# Altium schematic symbol library 4.096M有源晶振.SchLib: 1 symbol
Pins are listed as number, name and electrical type; pins without a type are passive.

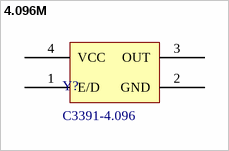
[diagram p0: symbol 4.096M]

## 4.096M
designator Y?, comment C3391-4.096
footprint OSC 7050-4P (7mm*5mm*1.3mm(长*宽*高))
pins: 1 E/D, 2 GND, 3 OUT, 4 VCC